# Altium footprint library SM6T15A.PcbLib: 3 footprints
Each footprint in its own frame and in the unit in brackets; x right, y up, seen from the top. Pads: shape width x height; smd on the part's side, far side on the other; paste and mask are expansions set on the pad; w line width, h text height; cw(c..) or ccw(c..) is an arc to the next point about the centre after c.
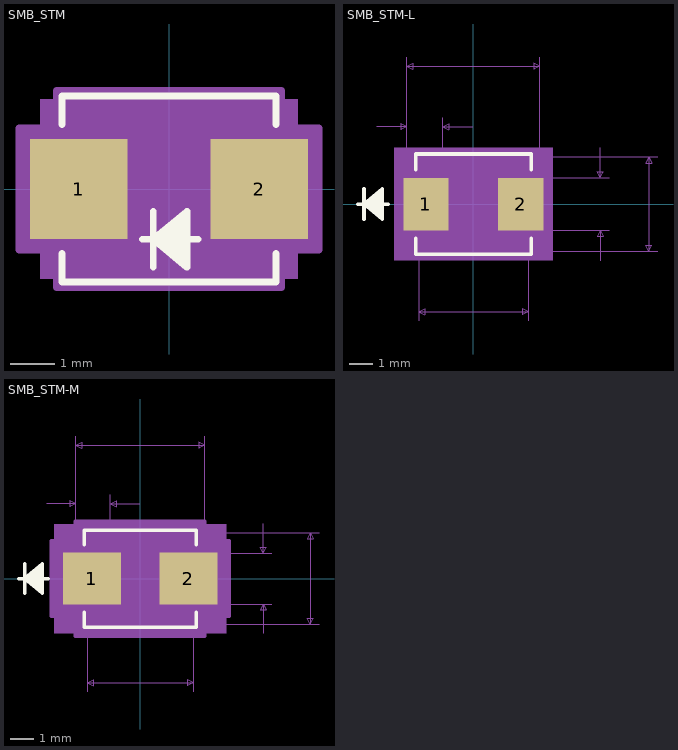
[diagram p0: the footprints below, top view; thin cyan lines are the x and y axes]

## SMB_STM [mil]
pads (2):
  rect 87x89 smd paste+0 mask+0: 1(-80.5,0) 2(80.5,0)
Top Overlay:
  lines w6: -95.5,-57.6 -95.5,-83 95.5,-83 95.5,-57.6 ; -95.5,57.6 -95.5,83 95.5,83 95.5,57.6 ; -24,-45 26,-45 ; -14,-70 -14,-20 ; 16,-65 -14,-45 ; 16,-60 -14,-45 ; 16,-55 -14,-45 ; 16,-50 -14,-45 ; 16,-40 -14,-45 ; 16,-35 -14,-45 ; 16,-30 -14,-45 ; 16,-25 -14,-45 ; -14,-45 16,-20 16,-70 -14,-45
Mechanical 5:
  region: 115,-80 -115,-80 -115,80 115,80
Mechanical 13:
  lines w1: -90.5,-39 -51.5,-78 ; -90.5,39 -51.5,78 ; -24,-45 26,-45 ; -14,-70 -14,-20 ; 16,-65 -14,-45 ; 16,-60 -14,-45 ; 16,-55 -14,-45 ; 16,-50 -14,-45 ; 16,-40 -14,-45 ; 16,-35 -14,-45 ; 16,-30 -14,-45 ; 16,-25 -14,-45 ; -14,-45 16,-20 16,-70 -14,-45 ; -110,-43.5 -110,43.5 -90.5,43.5 -90.5,-43.5 -110,-43.5 ; -90.5,-78 90.5,-78 90.5,78 -90.5,78 -90.5,-78 ; 90.5,-43.5 90.5,43.5 110,43.5 110,-43.5 90.5,-43.5
Mechanical 15:
  region: -100.5,-54.5 -134,-54.5 -134,54.5 -100.5,54.5 -100.5,88 100.5,88 100.5,54.5 134,54.5 134,-54.5 100.5,-54.5 100.5,-88 -100.5,-88
  lines w6: -134,-54.5 -134,54.5 -100.5,54.5 -100.5,88 100.5,88 100.5,54.5 134,54.5 134,-54.5 100.5,-54.5 100.5,-88 -100.5,-88 -100.5,-54.5 -134,-54.5
3D body "SMB_STM.step": height 104.09, standoff -19.5, extent -109.99,-77.99 110.01,78
3D body: height 10, standoff 0, extent 0,0 10,10

## SMB_STM-L [mil]
pads (2):
  rect 75x87 smd paste+0 mask+0: 1(-78.5,0) 2(78.5,0)
Top Overlay:
  lines w6: -191,0 -141,0 ; -181,-25 -181,25 ; -151,-20 -181,0 ; -151,-15 -181,0 ; -151,-10 -181,0 ; -151,-5 -181,0 ; -151,5 -181,0 ; -151,10 -181,0 ; -151,15 -181,0 ; -151,20 -181,0 ; -95.5,-56.6 -95.5,-83 95.5,-83 95.5,-56.6 ; -95.5,56.6 -95.5,83 95.5,83 95.5,56.6 ; -181,0 -151,25 -151,-25 -181,0
Mechanical 5:
  region: 131,-93 -131,-93 -131,93 131,93
Mechanical 7:
  lines w1: -160,128 -110,128 ; -110,143 -110,0 -110,243 ; -90.5,-193 -90.5,0 ; -51,0 -51,143 ; -1,128 -51,128 ; 0,-78 305.5,-78 ; 0,78 305.5,78 ; 90.5,-193 90.5,0 ; 110,-43.5 225,-43.5 ; 110,0 110,243 ; 110,43.5 225,43.5 ; 210,-93.5 210,-43.5 ; 210,93.5 210,43.5 ; -110,128 -120,133 -120,123 -110,128 ; -110,228 110,228 ; -110,228 -100,233 -100,223 -110,228 ; -90.5,-178 90.5,-178 ; -90.5,-178 -80.5,-173 -80.5,-183 -90.5,-178 ; -51,128 -41,133 -41,123 -51,128 ; 90.5,-178 80.5,-173 80.5,-183 90.5,-178 ; 110,228 100,233 100,223 110,228 ; 210,-43.5 205,-53.5 215,-53.5 210,-43.5 ; 210,43.5 205,53.5 215,53.5 210,43.5 ; 290.5,-78 290.5,78 ; 290.5,-78 285.5,-68 295.5,-68 290.5,-78 ; 290.5,78 285.5,68 295.5,68 290.5,78
  text "Default Padstyle: RX75Y87D0T" at -350,-368.5 h50
  text "Alt 1 Padstyle: OX60Y90D30P" at -337.5,-443.5 h50
  text "Alt 2 Padstyle: OX90Y60D30P" at -337.5,-518.5 h50
  text "0.22in/5.588mm" at -87.5,248 h25
  text "0.059in/1.499mm" at -174.25,148 h25
  text "0.087in/2.21mm" at 230,-12.5 h25
  text "0.156in/3.962mm" at 310.5,-12.5 h25
  text "0.181in/4.597mm" at -93.75,-223 h25
Mechanical 13:
  lines w1: -191,0 -141,0 ; -181,-25 -181,25 ; -151,-20 -181,0 ; -151,-15 -181,0 ; -151,-10 -181,0 ; -151,-5 -181,0 ; -151,5 -181,0 ; -151,10 -181,0 ; -151,15 -181,0 ; -151,20 -181,0 ; -90.5,-39 -51.5,-78 ; -90.5,39 -51.5,78 ; -181,0 -151,25 -151,-25 -181,0 ; -110,-43.5 -110,43.5 -90.5,43.5 -90.5,-43.5 -110,-43.5 ; -90.5,-78 90.5,-78 90.5,78 -90.5,78 -90.5,-78 ; 90.5,-43.5 90.5,43.5 110,43.5 110,-43.5 90.5,-43.5
Mechanical 15:
  region: -94.5,-47.5 -120,-47.5 -120,47.5 -94.5,47.5 -94.5,82 94.5,82 94.5,47.5 120,47.5 120,-47.5 94.5,-47.5 94.5,-82 -94.5,-82
  lines w6: -120,-47.5 -120,47.5 -94.5,47.5 -94.5,82 94.5,82 94.5,47.5 120,47.5 120,-47.5 94.5,-47.5 94.5,-82 -94.5,-82 -94.5,-47.5 -120,-47.5
3D body: height 10, standoff 0, extent 0,0 10,10

## SMB_STM-M [mil]
pads (2):
  rect 99x89 smd paste+0 mask+0: 1(-82.5,0) 2(82.5,0)
Top Overlay:
  lines w6: -207,0 -157,0 ; -197,-25 -197,25 ; -167,-20 -197,0 ; -167,-15 -197,0 ; -167,-10 -197,0 ; -167,-5 -197,0 ; -167,5 -197,0 ; -167,10 -197,0 ; -167,15 -197,0 ; -167,20 -197,0 ; -95.5,-57.6 -95.5,-83 95.5,-83 95.5,-57.6 ; -95.5,57.6 -95.5,83 95.5,83 95.5,57.6 ; -197,0 -167,25 -167,-25 -197,0
Mechanical 5:
  region: 147,-93 -147,-93 -147,93 147,93
Mechanical 7:
  lines w1: -160,128 -110,128 ; -110,143 -110,0 -110,243 ; -90.5,-193 -90.5,0 ; -51,0 -51,143 ; -1,128 -51,128 ; 0,-78 305.5,-78 ; 0,78 305.5,78 ; 90.5,-193 90.5,0 ; 110,-43.5 225,-43.5 ; 110,0 110,243 ; 110,43.5 225,43.5 ; 210,-93.5 210,-43.5 ; 210,93.5 210,43.5 ; -110,128 -120,133 -120,123 -110,128 ; -110,228 110,228 ; -110,228 -100,233 -100,223 -110,228 ; -90.5,-178 90.5,-178 ; -90.5,-178 -80.5,-173 -80.5,-183 -90.5,-178 ; -51,128 -41,133 -41,123 -51,128 ; 90.5,-178 80.5,-173 80.5,-183 90.5,-178 ; 110,228 100,233 100,223 110,228 ; 210,-43.5 205,-53.5 215,-53.5 210,-43.5 ; 210,43.5 205,53.5 215,53.5 210,43.5 ; 290.5,-78 290.5,78 ; 290.5,-78 285.5,-68 295.5,-68 290.5,-78 ; 290.5,78 285.5,68 295.5,68 290.5,78
  text "Default Padstyle: RX99Y89D0T" at -350,-369.5 h50
  text "Alt 1 Padstyle: OX60Y90D30P" at -337.5,-444.5 h50
  text "Alt 2 Padstyle: OX90Y60D30P" at -337.5,-519.5 h50
  text "0.22in/5.588mm" at -87.5,248 h25
  text "0.059in/1.499mm" at -174.25,148 h25
  text "0.087in/2.21mm" at 230,-12.5 h25
  text "0.156in/3.962mm" at 310.5,-12.5 h25
  text "0.181in/4.597mm" at -93.75,-223 h25
Mechanical 13:
  lines w1: -207,0 -157,0 ; -197,-25 -197,25 ; -167,-20 -197,0 ; -167,-15 -197,0 ; -167,-10 -197,0 ; -167,-5 -197,0 ; -167,5 -197,0 ; -167,10 -197,0 ; -167,15 -197,0 ; -167,20 -197,0 ; -90.5,-39 -51.5,-78 ; -90.5,39 -51.5,78 ; -197,0 -167,25 -167,-25 -197,0 ; -110,-43.5 -110,43.5 -90.5,43.5 -90.5,-43.5 -110,-43.5 ; -90.5,-78 90.5,-78 90.5,78 -90.5,78 -90.5,-78 ; 90.5,-43.5 90.5,43.5 110,43.5 110,-43.5 90.5,-43.5
Mechanical 15:
  region: -110.5,-64.5 -152,-64.5 -152,64.5 -110.5,64.5 -110.5,98 110.5,98 110.5,64.5 152,64.5 152,-64.5 110.5,-64.5 110.5,-98 -110.5,-98
  lines w6: -152,-64.5 -152,64.5 -110.5,64.5 -110.5,98 110.5,98 110.5,64.5 152,64.5 152,-64.5 110.5,-64.5 110.5,-98 -110.5,-98 -110.5,-64.5 -152,-64.5
3D body: height 10, standoff 0, extent 0,0 10,10